# EAGLE library part DIL16/8B (library ic-package)
Dual In Line 8 pins used
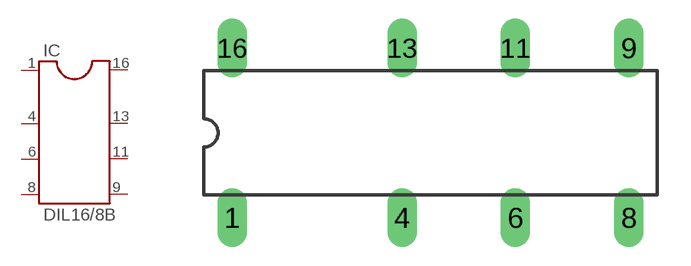
[diagram p13: symbol with the pads of DIL16/8B; footprint DIL16/8B]

Designator prefix IC

## DIL16/8B  [DIL16/8B]
1  1  pas
4  4  pas
6  6  pas
8  8  pas
9  9  pas
11  11  pas
13  13  pas
16  16  pas

## Footprint DIL16/8B (pad centres in mm)
Dual In Line Package 8 pins used
drill 0.813 long: 1 -8.89,-3.81; 4 -1.27,-3.81; 6 3.81,-3.81; 8 8.89,-3.81; 9 8.89,3.81; 11 3.81,3.81; 13 -1.27,3.81; 16 -8.89,3.81